# EAGLE library part LM75AIM/NOPB (library LM75AIM_NOPB)
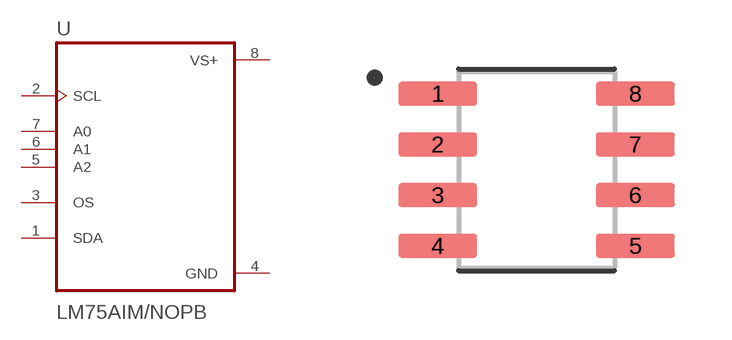
[diagram p0: symbol with the pads of SOIC127P599X175-8N; footprint SOIC127P599X175-8N]

Designator prefix U

## LM75AIM/NOPB (Description: IC, TEMP SENSOR, 2WIRE, 8SOIC; IC Output Type:Voltage; Sensing Accuracy Range:± 2°C; Sensing Temperature Min:-55°C; Sensing Temperature Max:+125°C; Supply Voltage Min:2.7V; Supply Voltage Max:5.5V; Sensor Case Style:SOIC; No. of Pins:8; Resolution (Bits):9bit; Supply Current:280µA; SVHC:No SVHC (20-Jun-2013); Base Number:75; Operating Temperature Max:125°C; Operating Temperature Min:-55°C; Operating Temperature Range:-55°C to +125°C; Output Current:4mA; Resolution:9bit; Sensor / Transducer Type:Temperature; Supply Voltage Range:2.7V to 5.5V; Temperature Sensing Range:-55°C to +125°C; Termination Type:SMD; Digi-Key_Part_Number: LM75AIMME/NOPBTR-ND; MF: Texas Instruments; MP: LM75AIM; Package: SOIC-8 Texas Instruments; Purchase-URL: https://pricing.snapeda.com/search/part/LM75AIM/?ref=eda)  [SOIC127P599X175-8N]
1  SDA
2  SCL  in
3  OS
4  GND  pwr
5  A2
6  A1
7  A0
8  VS+  pwr

## Footprint SOIC127P599X175-8N (pad centres in mm)
smd 1.97 x 0.6: 1 -2.47,1.905; 2 -2.47,0.635; 3 -2.47,-0.635; 4 -2.47,-1.905; 5 2.47,-1.905; 6 2.47,-0.635; 7 2.47,0.635; 8 2.47,1.905